# Altium schematic symbol library LQH5BPB4R7NT0L.SchLib: 1 symbol
Pins are listed as number, name and electrical type; pins without a type are passive.

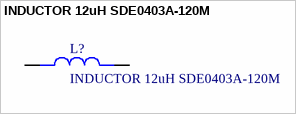
[diagram p0: symbol INDUCTOR 12uH SDE0403A-120M]

## INDUCTOR 12uH SDE0403A-120M
designator L?
INDUCTOR_2020(5.5mmX4.5mm)  SMT INDUCTOR 12uH SDE0403A-120M0 LQH5BPB4R7NT0L; Package: None; Price: None; Value: *; MP: LQH5BPB4R7NT0L; Availability: Unavailable
footprint IND_LQH5BPB4R7NT0L
pins: 1, 2